# Altium schematic symbol library Schlib2.SchLib: 10 symbols
Pins are listed as number, name and electrical type; pins without a type are passive.

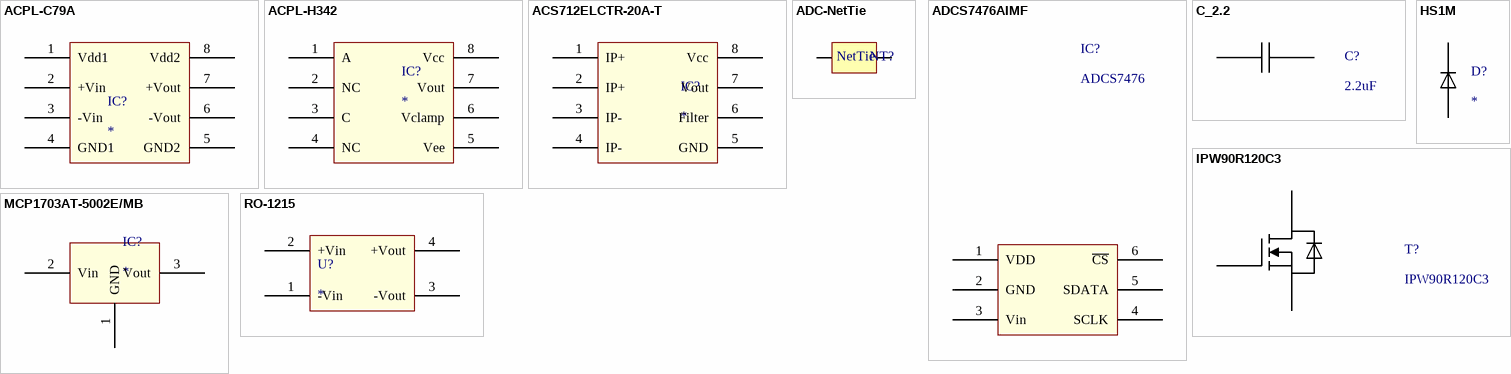
[diagram p0: symbols ACPL-C79A to RO-1215]

## ACPL-C79A
designator IC?
footprint SOIC127P1150X350-8N (SOIC, 8-Leads, Body 6.3x7.0mm (max), Pitch 1.27mm, IPC Medium Density)
pins: 1 Vdd1, 2 +Vin, 3 -Vin, 4 GND1, 5 GND2, 6 -Vout, 7 +Vout, 8 Vdd2

## ACPL-H342
designator IC?
footprint SOIC127P970X330-8N (SOIC, 8-Leads, Body 6.1x6.8mm (max), Pitch 1.27mm, IPC Medium Density)
pins: 1 A, 2 NC, 3 C, 4 NC, 5 Vee, 6 Vclamp, 7 Vout, 8 Vcc

## ACS712ELCTR-20A-T
designator IC?
footprint SOIC127P600X175-8N (SOIC, 8-Leads, Body 5.0x4.0mm (max), Pitch 1.27mm, IPC Medium Density)
pins: 1 IP+, 2 IP+, 3 IP-, 4 IP-, 5 GND, 6 Filter, 7 Vout, 8 Vcc

## ADC-NetTie
designator NT?  (value not drawn)  (net tie, no BOM)
footprint NetTie3.5x3mm
pins: 1, 2
text: NetTie

## ADCS7476AIMF
designator IC?, comment ADCS7476
footprint SOT95P280X145-6N (SOT23, 6-Leads, Body 3.0x3.0mm (max), Pitch 0.95mm, IPC Medium Density)
pins: 1 VDD, 2 GND, 3 Vin, 4 SCLK, 5 SDATA, 6 ~{CS}

## C_2.2
designator C?, comment 2.2uF
footprint CAPC3227X25N (Chip Capacitor, 2-Leads, Body 3.2x2.7mm, IPC Medium Density)
pins: 1, 2

## HS1M
designator D?
footprint DIOM4326X25N (Molded Diode, 2-Leads, Body 4.3x2.6mm, IPC Medium Density)
pins: 1, 2

## IPW90R120C3
designator T?
footprint PG-TO-247-3
pins: 1 G, 2 D, 3 S

## MCP1703AT-5002E/MB
designator IC?
footprint SOT89-150P410X160-3N (SOT89, 3-Leads, Body 4.5x2.4mm (max), Pitch 1.50mm, Lead Span 4.1mm, IPC Medium Density)
pins: 1 GND, 2 Vin, 3 Vout

## RO-1215
designator U?
footprint SIP4
pins: 1 -Vin, 2 +Vin, 3 -Vout, 4 +Vout